# EAGLE library part MAX11644EUA+ (library BloodMonLib)
DC/DC CONVERTER
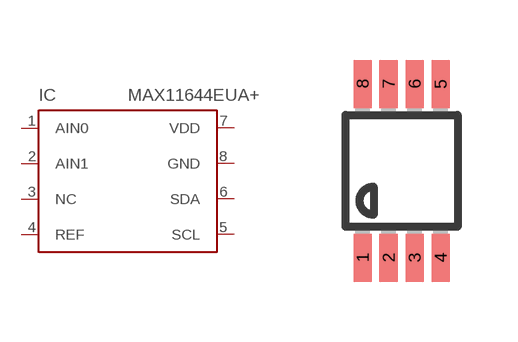
[diagram p2: symbol with the pads of UMAX8; footprint UMAX8]

Designator prefix IC

## MAX11644EUA+ (MF: MAXIM; MPN: MAX1674EUA+; OC_FARNELL: 1379864; OC_NEWARK: 23K5719)  [UMAX8]
1  AIN0  in
2  AIN1  in
3  NC  nc
4  REF  in
5  SCL
6  SDA
7  VDD  pwr
8  GND  pwr

## Footprint UMAX8 (pad centres in mm)
micro MAX Package
smd 0.45 x 1.2: 1 -0.975,-2.175; 2 -0.325,-2.175; 3 0.325,-2.175; 4 0.975,-2.175; 5 0.975,2.175; 6 0.325,2.175; 7 -0.325,2.175; 8 -0.975,2.175